# Altium footprint library LSM9DS1.PCBLIB: 1 footprints
Each footprint in its own frame and in the unit in brackets; x right, y up, seen from the top. Pads: shape width x height; smd on the part's side, far side on the other; paste and mask are expansions set on the pad; w line width, h text height; cw(c..) or ccw(c..) is an arc to the next point about the centre after c.
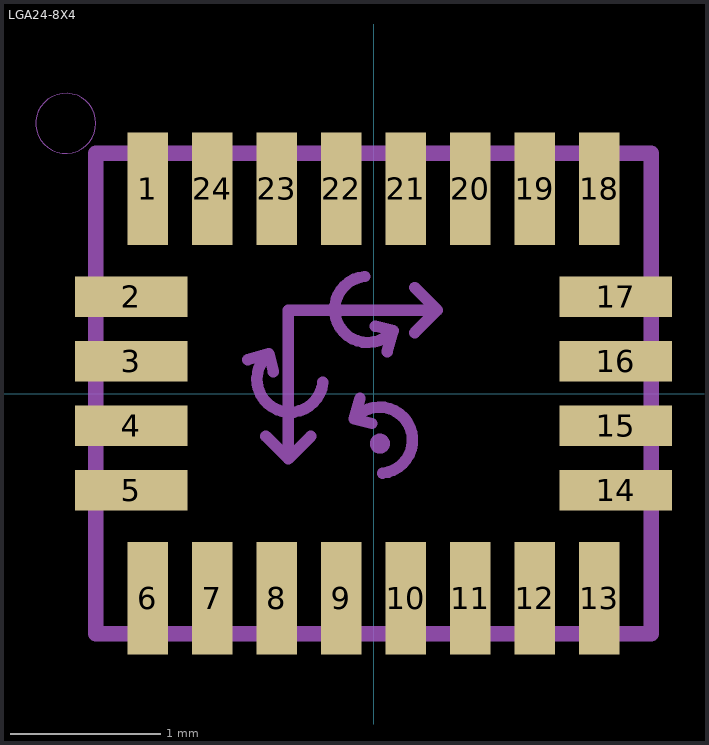
[diagram p0: the footprint, top view; thin cyan lines are the x and y axes]

## LGA24-8X4 [mm]
pads (24):
  rect 0.27x0.75 smd: 1(-1.505,1.365) 6(-1.505,-1.365) 7(-1.075,-1.365) 8(-0.645,-1.365) 9(-0.215,-1.365) 10(0.215,-1.365) 11(0.645,-1.365) 12(1.075,-1.365) 13(1.505,-1.365) 18(1.505,1.365) 19(1.075,1.365) 20(0.645,1.365) 21(0.215,1.365) 22(-0.215,1.365) 23(-0.645,1.365) 24(-1.075,1.365)
  rect 0.75x0.27 smd: 2(-1.615,0.645) 3(-1.615,0.215) 4(-1.615,-0.215) 5(-1.615,-0.645) 14(1.615,-0.645) 15(1.615,-0.215) 16(1.615,0.215) 17(1.615,0.645)
Mechanical 2:
  circle w0: c-2.05,1.8 r0.2
  lines w0.102: -1.85,-1.6 1.85,-1.6 1.85,1.6 -1.85,1.6 -1.85,-1.6
Mechanical 8:
  circle w0.076: c0.043,-0.334 r0.028
  lines w0.076: -0.837,0.225 -0.697,0.265 ; -0.717,-0.285 -0.567,-0.435 -0.417,-0.285 ; -0.667,0.145 -0.697,0.265 ; -0.567,-0.432 -0.567,0.556 0.425,0.556 ; -0.337,0.075 cw(c-0.556,0.095) -0.697,0.265 ; -0.09,-0.03 -0.13,-0.17 ; -0.059,0.78 ccw(c-0.038,0.56) 0.131,0.419 ; -0.01,-0.2 -0.13,-0.17 ; 0.011,0.449 0.131,0.419 ; 0.06,-0.53 ccw(c0.04,-0.311) -0.13,-0.17 ; 0.091,0.279 0.131,0.419 ; 0.275,0.406 0.425,0.556 ; 0.275,0.706 0.425,0.556